# EAGLE library part 615016137721 (library InputOutputIO (rev19a))
WR-MJ Horizontal Shielded Dual Port with LED and EMI Panel Finger 8P8C Modular Jack Tab Up, 16 Pins=>Code : Con_I-O_MJ-H_Shielded_Up_615016137721 <http://katalog.we-online.de/media/images/eican/Con_I-O_MJ-H_Shielded_Up_615016137721_pf2.jpg> Details see: http://katalog.we-online.de/en/em/MJ_HORIZONTAL_SHIELDED_DUAL_PORT_W_LED_AND_EMI_PANEL_FINGER_8P8C_TAB_UP Created 2014-07-10, Karrer Zheng 2014 (C) Würth Elektronik
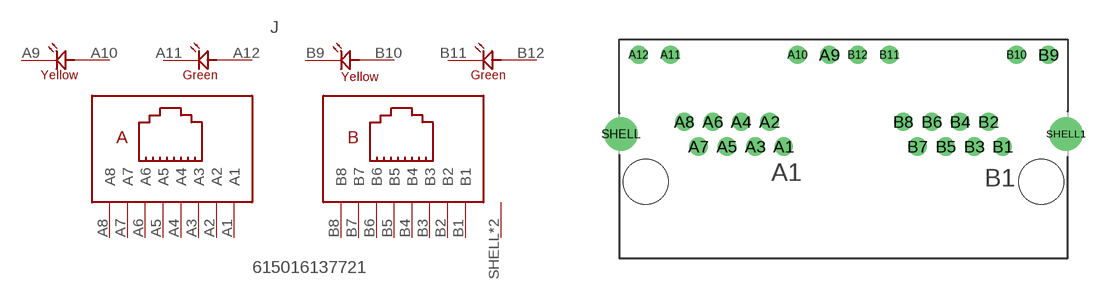
[diagram p124: symbol with the pads of 615016137721; footprint 615016137721]

Designator prefix J

## 615016137721  [615016137721]
A1  A1  pas
A2  A2  pas
A3  A3  pas
A4  A4  pas
A5  A5  pas
A6  A6  pas
A7  A7  pas
A8  A8  pas
A9  A10  pas
A10  A9  pas
A11  A12  pas
A12  A11  pas
B1  B1  pas
B2  B2  pas
B3  B3  pas
B4  B4  pas
B5  B5  pas
B6  B6  pas
B7  B7  pas
B8  B8  pas
B9  B10  pas
B10  B9  pas
B11  B12  pas
B12  B11  pas
SHELL  SHIELD  pas
SHELL1  SHIELD  pas

## Footprint 615016137721 (pad centres in mm)
WR-MJ Horizontal Shielded Dual Port with LED and EMI Panel Finger 8P8C Modular Jack Tab Up, 16 Pins
drill 0.8: A1 -4.305,-0.89; A2 -5.325,0.89; A3 -6.345,-0.89; A4 -7.365,0.89; A5 -8.385,-0.89; A6 -9.405,0.89; A7 -10.425,-0.89; A8 -11.445,0.89; A9 -1.015,5.71; A10 -3.305,5.71; A11 -12.445,5.71; A12 -14.735,5.71; B1 11.445,-0.89; B2 10.425,0.89; B3 9.405,-0.89; B4 8.385,0.89; B5 7.365,-0.89; B6 6.345,0.89; B7 5.325,-0.89; B8 4.305,0.89; B9 14.735,5.71; B10 12.445,5.71; B11 3.305,5.71; B12 1.015,5.71
drill 1.6: SHELL -16,0; SHELL1 16,0
hole 3.25 at -14.225,-3.43
hole 3.25 at 14.225,-3.43